# Altium footprint library WCAP-FTBP.PcbLib: 26 footprints (part 1 of 2)
Each footprint in its own frame and in the unit in brackets; x right, y up, seen from the top. Pads: shape width x height; smd on the part's side, far side on the other; paste and mask are expansions set on the pad; w line width, h text height; cw(c..) or ccw(c..) is an arc to the next point about the centre after c.
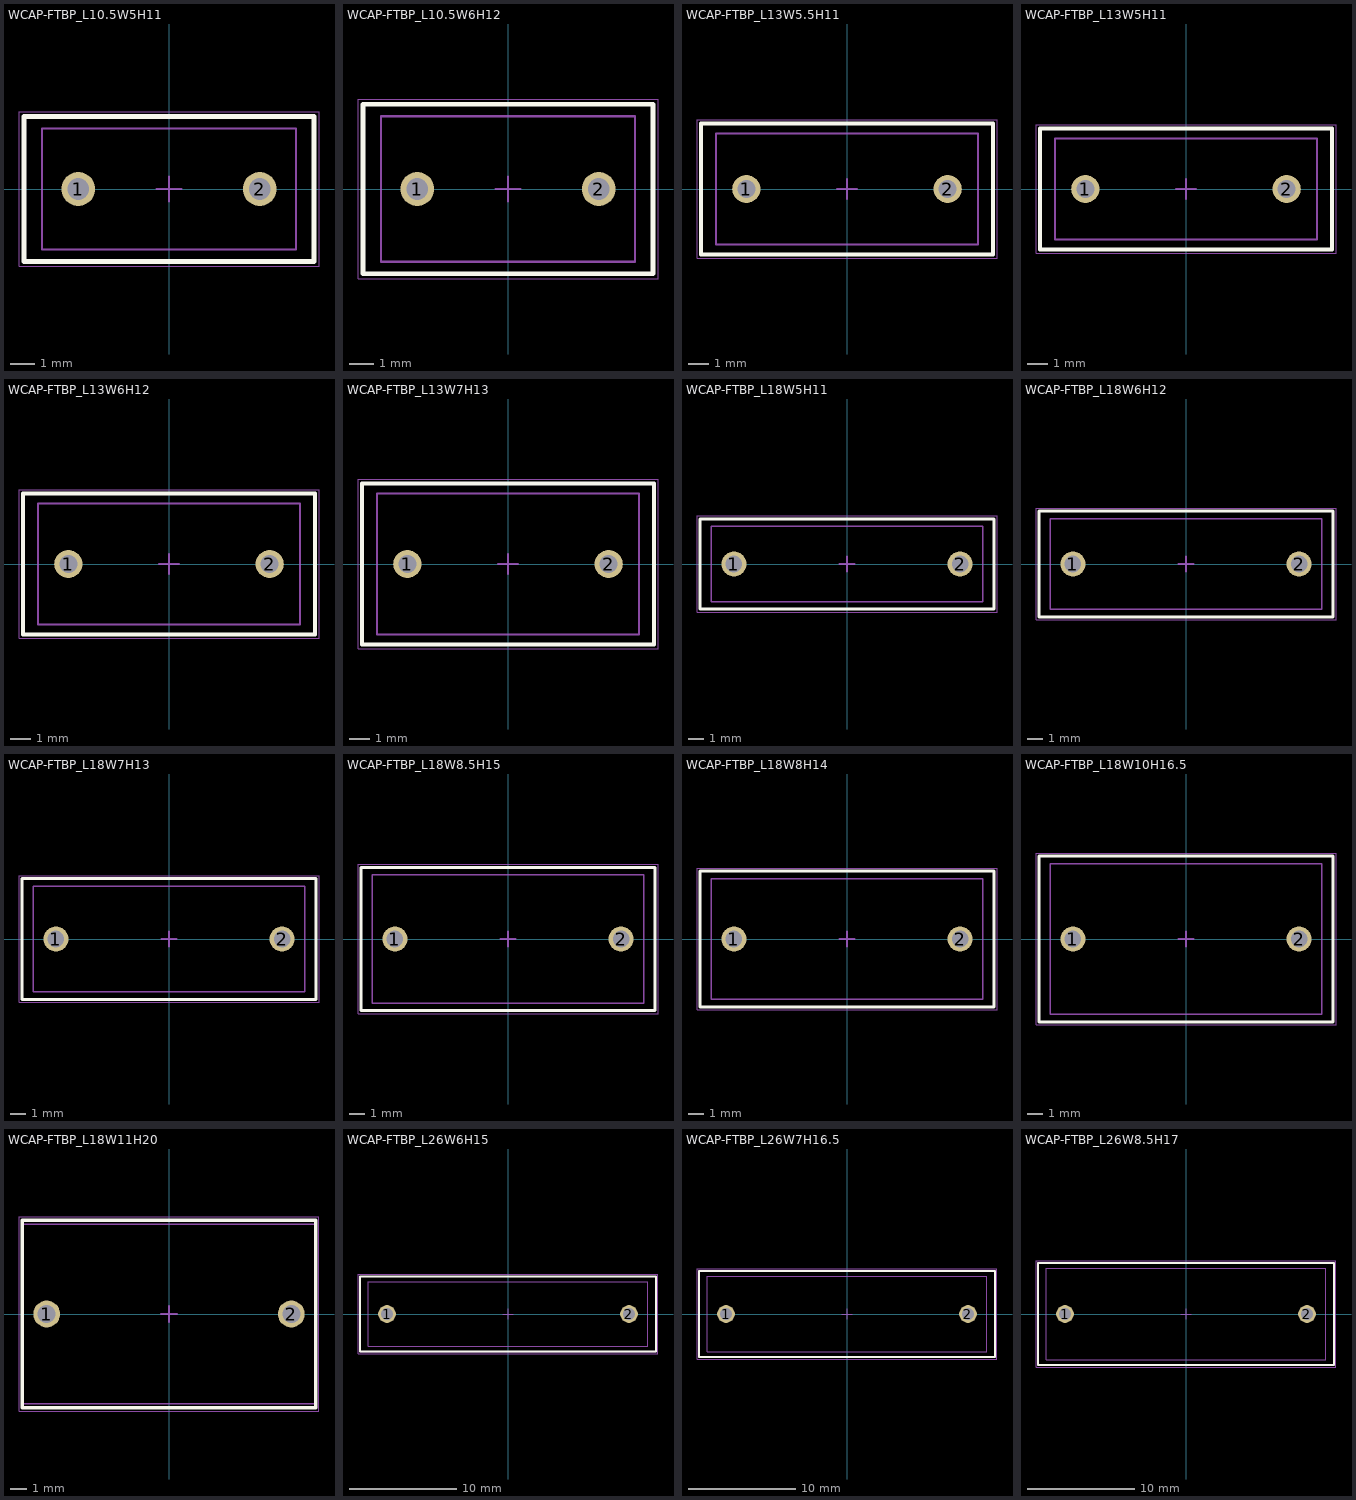
[diagram p0: the footprints below, top view; thin cyan lines are the x and y axes]

## WCAP-FTBP_L10.5W5H11 [mm] "Film Capacitors, 10.50 x 5.00 mm"
height 11
pads (2):
  round 1.4 hole 0.9: 1(-3.75,0) 2(3.75,0)
Top Overlay:
  lines w0.2: -6,-3 6,-3 6,3 -6,3 -6,-3
Top Assembly:
  lines w0.1: -6,-3 -6,3 6,3 6,-3 -6,-3
Top Designator:
  text ".Designator" at -3.647,-0.357 h1
Top 3D Body:
  lines w0.1: -5.25,-2.5 -5.25,2.5 5.25,2.5 5.25,-2.5 -5.25,-2.5
Top Courtyard:
  lines w0.05: -6.2,-3.2 6.2,-3.2 6.2,3.2 -6.2,3.2 -6.2,-3.2
Top Component Center:
  lines w0.1: -0.5,0 0.5,0 ; 0,-0.5 0,0.5
3D body "Download_STP_890xx332200xCS_rev1.stp": height 11.1, standoff -3.9, extent -5.25,-2.5 5.25,2.5

## WCAP-FTBP_L10.5W6H12 [mm] "Film Capacitors, 10.50 x 6.00 mm"
height 12
pads (2):
  round 1.4 hole 0.9: 1(-3.75,0) 2(3.75,0)
Top Overlay:
  lines w0.2: -6,-3.5 -6,3.5 6,3.5 6,-3.5 -6,-3.5
Top Assembly:
  lines w0.1: -6,-3.5 -6,3.5 6,3.5 6,-3.5 -6,-3.5
Top Designator:
  text ".Designator" at -3.647,-0.357 h1
Top 3D Body:
  lines w0.1: -5.25,-3 -5.25,3 5.25,3 5.25,-3 -5.25,-3
Top Courtyard:
  lines w0.05: -6.2,-3.7 -6.2,3.7 6.2,3.7 6.2,-3.7 -6.2,-3.7
Top Component Center:
  lines w0.1: -0.5,0 0.5,0 ; 0,-0.5 0,0.5
3D body "Download_STP_890283322006CS_rev1.stp": height 12.05, standoff -3.95, extent -5.25,-3 5.25,3

## WCAP-FTBP_L13W5.5H11 [mm] "Film Capacitors, 13.00 x 5.50 mm"
height 11
pads (2):
  round 1.4 hole 0.9: 1(-5,0) 2(5,0)
Top Overlay:
  lines w0.2: -7.25,-3.25 -7.25,3.25 7.25,3.25 7.25,-3.25 -7.25,-3.25
Top Assembly:
  lines w0.1: -7.25,-3.25 7.25,-3.25 7.25,3.25 -7.25,3.25 -7.25,-3.25
Top Designator:
  text ".Designator" at -3.647,-0.357 h1
Top 3D Body:
  lines w0.1: -6.5,-2.75 6.5,-2.75 6.5,2.75 -6.5,2.75 -6.5,-2.75
Top Courtyard:
  lines w0.05: -7.45,-3.45 -7.45,3.45 7.45,3.45 7.45,-3.45 -7.45,-3.45
Top Component Center:
  lines w0.1: -0.5,0 0.5,0 ; 0,-0.5 0,0.5
3D body "Download_STP_890xx332300xCS_rev1.stp": height 11.05, standoff -3.95, extent -6.5,-2.75 6.5,2.75

## WCAP-FTBP_L13W5H11 [mm] "Film Capacitors, 13.00 x 5.00 mm"
height 11
pads (2):
  round 1.4 hole 0.9: 1(-5,0) 2(5,0)
Top Overlay:
  lines w0.2: -7.25,-3 -7.25,3 7.25,3 7.25,-3 -7.25,-3
Top Assembly:
  lines w0.1: -7.25,-3 -7.25,3 7.25,3 7.25,-3 -7.25,-3
Top Designator:
  text ".Designator" at -3.647,-0.357 h1
Top 3D Body:
  lines w0.1: -6.5,-2.5 -6.5,2.5 6.5,2.5 6.5,-2.5 -6.5,-2.5
Top Courtyard:
  lines w0.05: -7.45,-3.2 -7.45,3.2 7.45,3.2 7.45,-3.2 -7.45,-3.2
Top Component Center:
  lines w0.1: -0.5,0 0.5,0 ; 0,-0.5 0,0.5
3D body "10x13x5x11.stp": height 11.05, standoff -3.95, extent -6.5,-2.5 6.5,2.5

## WCAP-FTBP_L13W6H12 [mm] "Film Capacitors, 13.00 x 6.00 mm"
height 12
pads (2):
  round 1.4 hole 0.9: 1(-5,0) 2(5,0)
Top Overlay:
  lines w0.2: -7.25,-3.5 7.25,-3.5 7.25,3.5 -7.25,3.5 -7.25,-3.5
Top Assembly:
  lines w0.1: -7.25,-3.5 -7.25,3.5 7.25,3.5 7.25,-3.5 -7.25,-3.5
Top Designator:
  text ".Designator" at -3.647,-0.357 h1
Top 3D Body:
  lines w0.1: -6.5,-3 -6.5,3 6.5,3 6.5,-3 -6.5,-3
Top Courtyard:
  lines w0.05: -7.45,-3.7 7.45,-3.7 7.45,3.7 -7.45,3.7 -7.45,-3.7
Top Component Center:
  lines w0.1: -0.5,0 0.5,0 ; 0,-0.5 0,0.5
3D body "10x13x6x12.stp": height 12.05, standoff -3.95, extent -6.5,-3 6.5,3

## WCAP-FTBP_L13W7H13 [mm] "Film Capacitors, 13.00 x 7.00 mm"
height 13
pads (2):
  round 1.4 hole 0.9: 1(-5,0) 2(5,0)
Top Overlay:
  lines w0.2: -7.25,-4 7.25,-4 7.25,4 -7.25,4 -7.25,-4
Top Assembly:
  lines w0.1: -7.25,-4 -7.25,4 7.25,4 7.25,-4 -7.25,-4
Top Designator:
  text ".Designator" at -3.647,-0.357 h1
Top 3D Body:
  lines w0.1: -6.5,-3.5 -6.5,3.5 6.5,3.5 6.5,-3.5 -6.5,-3.5
Top Courtyard:
  lines w0.05: -7.45,-4.2 7.45,-4.2 7.45,4.2 -7.45,4.2 -7.45,-4.2
Top Component Center:
  lines w0.1: -0.5,0 0.5,0 ; 0,-0.5 0,0.5
3D body "10x13x7x13.stp": height 13.05, standoff -3.95, extent -6.5,-3.5 6.5,3.5

## WCAP-FTBP_L18W5H11 [mm] "Film Capacitors, 18.00 x 5.00 mm"
height 11
pads (2):
  round 1.65 hole 1.1: 1(-7.5,0) 2(7.5,0)
Top Overlay:
  lines w0.2: -9.75,-3 -9.75,3 9.75,3 9.75,-3 -9.75,-3
Top Assembly:
  lines w0.1: -9.75,-3 9.75,-3 9.75,3 -9.75,3 -9.75,-3
Top Designator:
  text ".Designator" at -3.647,-0.357 h1
Top 3D Body:
  lines w0.1: -9,-2.5 9,-2.5 9,2.5 -9,2.5 -9,-2.5
Top Courtyard:
  lines w0.05: -9.95,-3.2 -9.95,3.2 9.95,3.2 9.95,-3.2 -9.95,-3.2
Top Component Center:
  lines w0.1: -0.5,0 0.5,0 ; 0,-0.5 0,0.5
3D body "15x18x5x11.stp": height 11.05, standoff -3.95, extent -9,-2.5 9,2.5

## WCAP-FTBP_L18W6H12 [mm] "Film Capacitors, 18.00 x 6.00 mm"
height 12
pads (2):
  round 1.65 hole 1.1: 1(-7.5,0) 2(7.5,0)
Top Overlay:
  lines w0.2: -9.75,-3.5 -9.75,3.5 9.75,3.5 9.75,-3.5 -9.75,-3.5
Top Assembly:
  lines w0.1: -9.75,-3.5 -9.75,3.5 9.75,3.5 9.75,-3.5 -9.75,-3.5
Top Designator:
  text ".Designator" at -3.647,-0.357 h1
Top 3D Body:
  lines w0.1: -9,-3 9,-3 9,3 -9,3 -9,-3
Top Courtyard:
  lines w0.05: -9.95,-3.7 -9.95,3.7 9.95,3.7 9.95,-3.7 -9.95,-3.7
Top Component Center:
  lines w0.1: -0.5,0 0.5,0 ; 0,-0.5 0,0.5
3D body "15x18x6x12.stp": height 12.05, standoff -3.95, extent -9,-3 9,3

## WCAP-FTBP_L18W7H13 [mm] "Film Capacitors, 18.00 x 7.00 mm"
height 13
pads (2):
  round 1.65 hole 1.1: 1(-7.5,0) 2(7.5,0)
Top Overlay:
  lines w0.2: -9.75,-4 -9.75,4 9.75,4 9.75,-4 -9.75,-4
Top Assembly:
  lines w0.1: -9.75,-4 -9.75,4 9.75,4 9.75,-4 -9.75,-4
Top Designator:
  text ".Designator" at -3.647,-0.357 h1
Top 3D Body:
  lines w0.1: -9,-3.5 9,-3.5 9,3.5 -9,3.5 -9,-3.5
Top Courtyard:
  lines w0.05: -9.95,-4.2 -9.95,4.2 9.95,4.2 9.95,-4.2 -9.95,-4.2
Top Component Center:
  lines w0.1: -0.5,0 0.5,0 ; 0,-0.5 0,0.5
3D body "15x18x7x13.stp": height 13.05, standoff -3.95, extent -9,-3.5 9,3.5

## WCAP-FTBP_L18W8.5H15 [mm] "Film Capacitors, 18.00 x 8.50 mm"
height 15
pads (2):
  round 1.65 hole 1.1: 1(-7.5,0) 2(7.5,0)
Top Overlay:
  lines w0.2: -9.75,-4.75 -9.75,4.75 9.75,4.75 9.75,-4.75 -9.75,-4.75
Top Assembly:
  lines w0.1: -9.75,-4.75 -9.75,4.75 9.75,4.75 9.75,-4.75 -9.75,-4.75
Top Designator:
  text ".Designator" at -3.647,-0.357 h1
Top 3D Body:
  lines w0.1: -9,-4.25 -9,4.25 9,4.25 9,-4.25 -9,-4.25
Top Courtyard:
  lines w0.05: -9.95,-4.95 -9.95,4.95 9.95,4.95 9.95,-4.95 -9.95,-4.95
Top Component Center:
  lines w0.1: -0.5,0 0.5,0 ; 0,-0.5 0,0.5
3D body "15x18x8,5x15.stp": height 15.1, standoff -3.9, extent -9,-4.25 9,4.25

## WCAP-FTBP_L18W8H14 [mm] "Film Capacitors, 18.00 x 8.00 mm"
height 14
pads (2):
  round 1.65 hole 1.1: 1(-7.5,0) 2(7.5,0)
Top Overlay:
  lines w0.2: -9.75,-4.5 9.75,-4.5 9.75,4.5 -9.75,4.5 -9.75,-4.5
Top Assembly:
  lines w0.1: -9.75,-4.5 9.75,-4.5 9.75,4.5 -9.75,4.5 -9.75,-4.5
Top Designator:
  text ".Designator" at -3.647,-0.357 h1
Top 3D Body:
  lines w0.1: -9,-4 9,-4 9,4 -9,4 -9,-4
Top Courtyard:
  lines w0.05: -9.95,-4.7 9.95,-4.7 9.95,4.7 -9.95,4.7 -9.95,-4.7
Top Component Center:
  lines w0.1: -0.5,0 0.5,0 ; 0,-0.5 0,0.5
3D body "15x18x8x14.stp": height 14.05, standoff -3.95, extent -9,-4 9,4

## WCAP-FTBP_L18W10H16.5 [mm] "Film Capacitors, 18.00 x 10.00 mm"
height 16.5
pads (2):
  round 1.65 hole 1.1: 1(-7.5,0) 2(7.5,0)
Top Overlay:
  lines w0.2: -9.75,-5.5 9.75,-5.5 9.75,5.5 -9.75,5.5 -9.75,-5.5
Top Assembly:
  lines w0.1: -9.75,-5.5 9.75,-5.5 9.75,5.5 -9.75,5.5 -9.75,-5.5
Top Designator:
  text ".Designator" at -3.647,-0.357 h1
Top 3D Body:
  lines w0.1: -9,-5 9,-5 9,5 -9,5 -9,-5
Top Courtyard:
  lines w0.05: -9.95,-5.7 9.95,-5.7 9.95,5.7 -9.95,5.7 -9.95,-5.7
Top Component Center:
  lines w0.1: -0.5,0 0.5,0 ; 0,-0.5 0,0.5
3D body "15x18x10x16,5.stp": height 16.55, standoff -3.95, extent -9,-5 9,5

## WCAP-FTBP_L18W11H20 [mm] "Film Capacitors, 18.00 x 11.00 mm"
height 20
pads (2):
  round 1.65 hole 1.1: 1(-7.5,0) 2(7.5,0)
Top Overlay:
  lines w0.2: -9,-5.75 -9,5.75 9,5.75 9,-5.75 -9,-5.75
Top Assembly:
  lines w0.1: -9,-5.75 -9,5.75 9,5.75 9,-5.75 -9,-5.75
Top Designator:
  text ".Designator" at -3.647,-0.357 h1
Top 3D Body:
  lines w0.1: -9,-5.5 -9,5.5 9,5.5 9,-5.5 -9,-5.5
Top Courtyard:
  lines w0.05: -9.2,-5.95 -9.2,5.95 9.2,5.95 9.2,-5.95 -9.2,-5.95
Top Component Center:
  lines w0.1: -0.5,0 0.5,0 ; 0,-0.5 0,0.5
3D body "15x18x11x20.stp": height 20.05, standoff -17.95, extent -9,-5.5 9,5.5

## WCAP-FTBP_L26W6H15 [mm] "Film Capacitors, 26.00 x 6.00 mm"
height 15
pads (2):
  round 1.65 hole 1.1: 1(-11.25,0) 2(11.25,0)
Top Overlay:
  lines w0.2: -13.75,-3.5 13.75,-3.5 13.75,3.5 -13.75,3.5 -13.75,-3.5
Top Assembly:
  lines w0.1: -13.75,-3.5 13.75,-3.5 13.75,3.5 -13.75,3.5 -13.75,-3.5
Top Designator:
  text ".Designator" at -3.647,-0.357 h1
Top 3D Body:
  lines w0.1: -13,-3 -13,3 13,3 13,-3 -13,-3
Top Courtyard:
  lines w0.05: -13.95,-3.7 13.95,-3.7 13.95,3.7 -13.95,3.7 -13.95,-3.7
Top Component Center:
  lines w0.1: -0.5,0 0.5,0 ; 0,-0.5 0,0.5
3D body "22,5x26x6x15.stp": height 15.05, standoff -3.95, extent -13,-3 13,3

## WCAP-FTBP_L26W7H16.5 [mm] "Film Capacitors, 26.00 x 7.00 mm"
height 16.5
pads (2):
  round 1.65 hole 1.1: 1(-11.25,0) 2(11.25,0)
Top Overlay:
  lines w0.2: -13.75,-4 -13.75,4 13.75,4 13.75,-4 -13.75,-4
Top Assembly:
  lines w0.1: -13.75,-4 13.75,-4 13.75,4 -13.75,4 -13.75,-4
Top Designator:
  text ".Designator" at -3.647,-0.357 h1
Top 3D Body:
  lines w0.1: -13,-3.5 13,-3.5 13,3.5 -13,3.5 -13,-3.5
Top Courtyard:
  lines w0.05: -13.95,-4.2 13.95,-4.2 13.95,4.2 -13.95,4.2 -13.95,-4.2
Top Component Center:
  lines w0.1: -0.5,0 0.5,0 ; 0,-0.5 0,0.5
3D body "22,5x26x7x16,5.stp": height 16.55, standoff -3.95, extent -13,-3.5 13,3.5

## WCAP-FTBP_L26W8.5H17 [mm] "Film Capacitors, 26.00 x 8.50 mm"
height 17
pads (2):
  round 1.65 hole 1.1: 1(-11.25,0) 2(11.25,0)
Top Overlay:
  lines w0.2: -13.75,-4.75 13.75,-4.75 13.75,4.75 -13.75,4.75 -13.75,-4.75
Top Assembly:
  lines w0.1: -13.75,-4.75 13.75,-4.75 13.75,4.75 -13.75,4.75 -13.75,-4.75
Top Designator:
  text ".Designator" at -3.647,-0.357 h1
Top 3D Body:
  lines w0.1: -13,-4.25 -13,4.25 13,4.25 13,-4.25 -13,-4.25
Top Courtyard:
  lines w0.05: -13.95,-4.95 -13.95,4.95 13.95,4.95 13.95,-4.95 -13.95,-4.95
Top Component Center:
  lines w0.1: -0.5,0 0.5,0 ; 0,-0.5 0,0.5
3D body "22,5x26x8,5x17.stp": height 17.05, standoff -3.95, extent -13,-4.25 13,4.25